# Altium footprint library TSW-101-08-X-D-RA.PcbLib: 1 footprints
Each footprint in its own frame and in the unit in brackets; x right, y up, seen from the top. Pads: shape width x height; smd on the part's side, far side on the other; paste and mask are expansions set on the pad; w line width, h text height; cw(c..) or ccw(c..) is an arc to the next point about the centre after c.
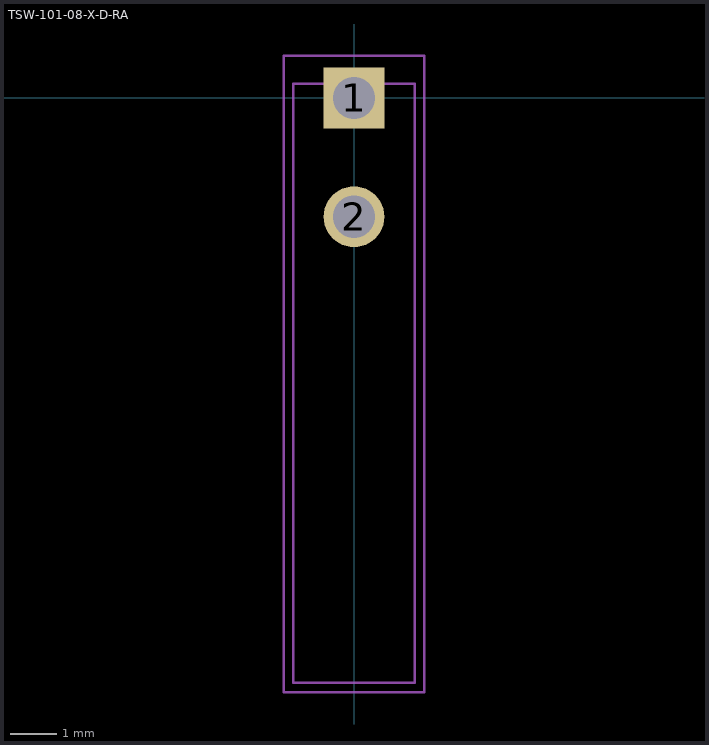
[diagram p0: the footprint, top view; thin cyan lines are the x and y axes]

## TSW-101-08-X-D-RA [mm]
pads (2):
  rect 1.3x1.3 hole 0.9: 1(0,0)
  round 1.3 hole 0.9: 2(0,-2.54)
Top Assembly:
  lines w0.05: -1.3,-12.5 1.3,-12.5 1.3,0.3 -1.3,0.3 -1.3,-12.5
Top Courtyard:
  lines w0.05: -1.5,-12.7 1.5,-12.7 1.5,0.9 1.3,0.9 -1.5,0.9 -1.5,-12.7
3D body "TSW-101-08-T-D-RA.stp": height 5.74, standoff -2.11, extent -1.27,-12.482 1.27,0.282